# EAGLE library part TPS61291 (library FaBo-LevelTranslator)
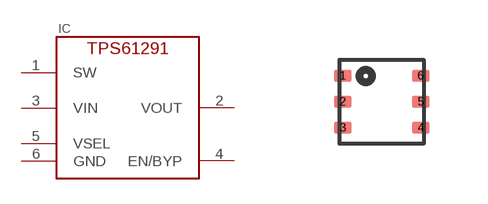
[diagram p9: symbol with the pads of WSON6; footprint WSON6]

Designator prefix IC

## TPS61291  [WSON6]
1  SW
2  VOUT
3  VIN
4  EN/BYP
5  VSEL
6  GND

## Footprint WSON6 (pad centres in mm)
smd 0.45 x 0.3: 1 -0.975,0.65; 2 -0.975,0; 3 -0.975,-0.65; 4 0.975,-0.65; 5 0.975,0; 6 0.975,0.65